# EAGLE library part DX4R005JJ2R1800 (library DX4R005JJ2R1800)
Check prices <https://pricing.snapeda.com/parts/DX4R005JJ2R1800/JAE%20Electronics/view-part?ref=eda>
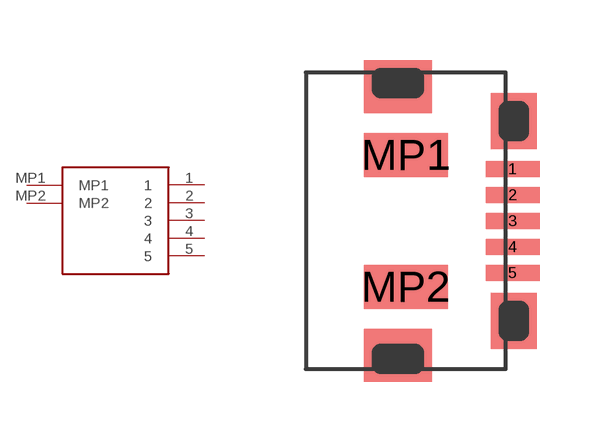
[diagram p0: symbol with the pads of DX4R005JJ2R1800; footprint DX4R005JJ2R1800]

Designator prefix -

## DX4R005JJ2R1800 (Availability: In Stock; Description: USB - micro B USB 2.0 Receptacle Connector 5 Position Surface Mount, Right Angle; Through Hole; MF: JAE Electronics; MP: DX4R005JJ2R1800; Package: None; Price: None)  [DX4R005JJ2R1800]
1  1
2  2
3  3
4  4
5  5
MP1  MP1
MP2  MP2

## Footprint DX4R005JJ2R1800 (pad centres in mm)
smd 1.35 x 0.4: 1 1.525,1.3; 2 1.525,0.65; 3 1.525,0; 4 1.525,-0.65; 5 1.525,-1.3
smd 2.1 x 1.1: MP1 -1.15,1.65; MP2 -1.15,-1.65